# Altium schematic symbol library transistor.SchLib: 14 symbols
Pins are listed as number, name and electrical type; pins without a type are passive.

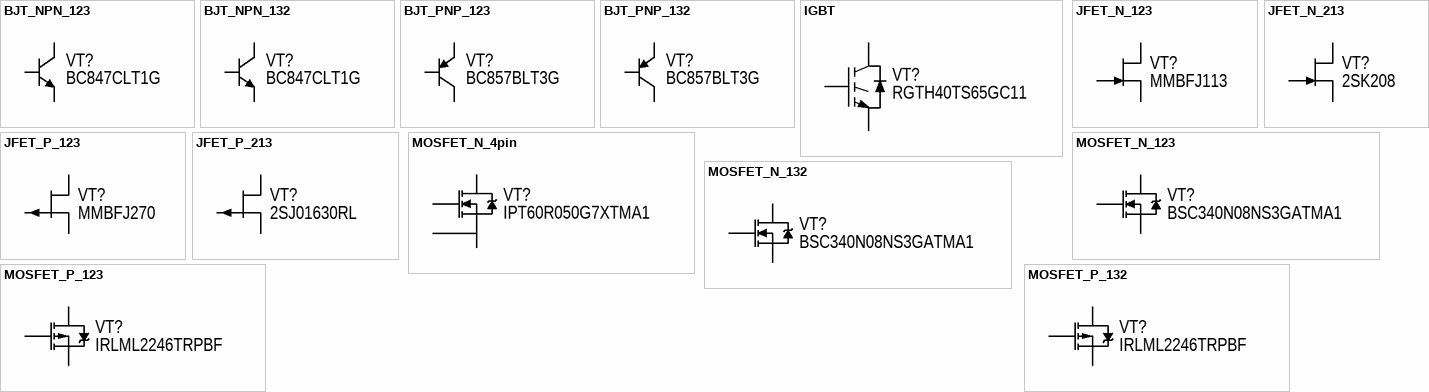
[diagram p0: symbols BJT_NPN_123 to MOSFET_P_132]

## BJT_NPN_123
designator VT?  PartNumber: BC847CLT1G
Manufacturer: ON Semiconductor; ValueManufacturerPartNumber: NPN transistor, 45V, 100mA, 100MHz, 300mW, 0.6V, 420, SOT-23, -55...+125°C; TypeTransistor: NPN transistor; VoltageCE: 45V; CurrentCE: 100mA; VoltageSaturation: 0.6V; Frequency: 100MHz; CurrentGain: 420; MaxPower: 300mW; Package: SOT-23; HelpURL: https://www.digikey.com/product-detail/en/on-semiconductor/BC847CLT1G/BC847CLT1GOSCT-ND/917836; Temperature: -55...+125°C
footprint DPAK
footprint D2PAK
footprint SOT23
footprint SOT89
footprint SOT223 (SOT223, 4-Leads, Body 6,50x7,00mm (avg), Pitch 2,30mm, IPC Medium Density)
footprint SC-70
pins: 1 B, 2 C, 3 E

## BJT_NPN_132
designator VT?  PartNumber: BC847CLT1G
Manufacturer: ON Semiconductor; ValueManufacturerPartNumber: NPN transistor, 45V, 100mA, 100MHz, 300mW, 0.6V, 420, SOT-23, -55...+125°C; TypeTransistor: NPN transistor; VoltageCE: 45V; CurrentCE: 100mA; VoltageSaturation: 0.6V; Frequency: 100MHz; CurrentGain: 420; MaxPower: 300mW; Package: SOT-23; HelpURL: https://www.digikey.com/product-detail/en/on-semiconductor/BC847CLT1G/BC847CLT1GOSCT-ND/917836; Temperature: -55...+125°C
footprint D2PAK
footprint DPAK
footprint SOT23
footprint SOT89
footprint SOT223 (SOT223, 4-Leads, Body 6,50x7,00mm (avg), Pitch 2,30mm, IPC Medium Density)
footprint SC-70
pins: 1 B, 2 E, 3 C

## BJT_PNP_123
designator VT?  PartNumber: BC857BLT3G
Manufacturer: ON Semiconductor; ValueManufacturerPartNumber: PNP transistor, 45V, 100mA, 100MHz, 300mW, 0.65V, 220, SOT-23, -55...+125°C; TypeTransistor: PNP transistor; VoltageCE: 45V; CurrentCE: 100mA; VoltageSaturation: 0.65V; Frequency: 100MHz; CurrentGain: 220; MaxPower: 300mW; Package: SOT-23; HelpURL: https://www.digikey.com/product-detail/en/on-semiconductor/BC857BLT3G/BC857BLT3GOSCT-ND/2704963; Temperature: -55...+125°C
footprint D2PAK
footprint DPAK
footprint SOT223 (SOT223, 4-Leads, Body 6,50x7,00mm (avg), Pitch 2,30mm, IPC Medium Density)
footprint SOT23
footprint SOT89
footprint SC-70
pins: 1 B, 2 E, 3 C

## BJT_PNP_132
designator VT?  PartNumber: BC857BLT3G
Manufacturer: ON Semiconductor; ValueManufacturerPartNumber: PNP transistor, 45V, 100mA, 100MHz, 300mW, 0.65V, 220, SOT-23, -55...+125°C; TypeTransistor: PNP transistor; VoltageCE: 45V; CurrentCE: 100mA; VoltageSaturation: 0.65V; Frequency: 100MHz; CurrentGain: 220; MaxPower: 300mW; Package: SOT-23; HelpURL: https://www.digikey.com/product-detail/en/on-semiconductor/BC857BLT3G/BC857BLT3GOSCT-ND/2704963; Temperature: -55...+125°C
footprint D2PAK
footprint DPAK
footprint SOT89
footprint SOT23
footprint SOT223 (SOT223, 4-Leads, Body 6,50x7,00mm (avg), Pitch 2,30mm, IPC Medium Density)
footprint SC-70
pins: 1 B, 2 C, 3 E

## IGBT
designator VT?  PartNumber: RGTH40TS65GC11
Manufacturer: Rohm Semiconductor; ValueManufacturerPartNumber: IGBT transistor, 650V, 40A, 40nC, 144W, 2.1V, 22ns/73ns, TO247, -55...+125°C; TypeTransistor: IGBT transistor; VoltageCE: 650V; CurrentCE: 40A; VoltageSaturation: 2.1V; GateCharge: 40nC; TimeOnOff: 22ns/73ns; MaxPower: 144W; Package: TO247; HelpURL: https://www.digikey.com/product-detail/en/rohm-semiconductor/RGTH40TS65GC11/RGTH40TS65GC11-ND/5029953; Temperature: -55...+125°C
footprint TO220
footprint TO220(H)
footprint TO247 (3-Lead Plastic TO-247)
footprint TO247(H) (3-Lead Plastic TO-247)
pins: 1 G, 2 C, 3 E

## JFET_N_123
designator VT?  PartNumber: MMBFJ113
Manufacturer: ON Semiconductor; ValueManufacturerPartNumber: JFET N-Channel transistor, 35V, 2mA, 350mW, 100 Ohms, SOT-23, -55...+150°C; TypeTransistor: JFET N-Channel transistor; VoltageDS: 35V; CurrentDS: 2mA; RDS: 100 Ohms; MaxPower: 350mW; Package: SOT-23; HelpURL: https://www.digikey.com/product-detail/en/on-semiconductor/MMBFJ113/MMBFJ113TR-ND/1049302; Temperature: -55...+150°C
footprint SOT23
pins: 1 D, 2 S, 3 G

## JFET_N_213
designator VT?  PartNumber: 2SK208
Manufacturer: Toshiba Semiconductor and Storage; ValueManufacturerPartNumber: JFET N-Channel transistor, 50V, 6.5mA, 100mW, 100 Ohms, SOT-23, -55...+125°C; TypeTransistor: JFET N-Channel transistor; VoltageDS: 50V; CurrentDS: 6.5mA; RDS: 100 Ohms; MaxPower: 100mW; Package: SOT-23; HelpURL: https://www.digikey.com/product-detail/en/toshiba-semiconductor-and-storage/2SK208-R-TE85L-F/2SK208-R-TE85LF-TR-ND/4503056; Temperature: -55...+125°C
footprint SOT23
pins: 1 S, 2 D, 3 G

## JFET_P_123
designator VT?  PartNumber: MMBFJ270
Manufacturer: ON Semiconductor; ValueManufacturerPartNumber: JFET P-Channel transistor, 30V, 2mA, 225mW, 34mOhm, SOT-23, -55...+150°C; TypeTransistor: JFET P-Channel transistor; VoltageDS: 30V; CurrentDS: 2mA; RDS: 34mOhm; MaxPower: 225mW; Package: SOT-23; HelpURL: https://www.digikey.com/product-detail/en/on-semiconductor/MMBFJ270/MMBFJ270TR-ND/1050159; Temperature: -55...+150°C
footprint SOT23
pins: 1 D, 2 S, 3 G

## JFET_P_213
designator VT?  PartNumber: 2SJ01630RL
Manufacturer: Panasonic Electronic Components; ValueManufacturerPartNumber: JFET P-Channel transistor, 65V, 20mA, 150mW, 300 Ohms, SOT-23, -55...+150°C; TypeTransistor: JFET P-Channel transistor; VoltageDS: 65V; CurrentDS: 20mA; RDS: 300 Ohms; MaxPower: 150mW; Package: SOT-23; HelpURL: https://www.digikey.com/product-detail/en/panasonic-electronic-components/2SJ01630RL/2SJ01630RLTR-ND/972189; Temperature: -55...+150°C
footprint SOT23
pins: 1 S, 2 D, 3 G

## MOSFET_N_4pin
designator VT?  PartNumber: IPT60R050G7XTMA1
Manufacturer: Infineon Technologies; ValueManufacturerPartNumber: MOSFET N-channel transistor, 650V, 44A, 68nC, 245W, 50mOhm, 2670pF, 8-HSOF, -55...+150°C; TypeTransistor: MOSFET N-channel transistor; VoltageDS: 650V; CurrentDS: 44A; RDS: 50mOhm; GateCharge: 68nC; InputCapacitor: 2670pF; MaxPower: 245W; Package: 8-HSOF; HelpURL: https://www.digikey.com/product-detail/en/infineon-technologies/IPT60R050G7XTMA1/IPT60R050G7XTMA1CT-ND/8655796; Temperature: -55...+150°C
footprint HSOF-8-2 (8-HSOF)
footprint PowerPAK (8x8 mm)
pins: 1 G, 2 D, 3 S, 4 S

## MOSFET_N_123
designator VT?  PartNumber: BSC340N08NS3GATMA1
Manufacturer: Infineon Technologies; ValueManufacturerPartNumber: MOSFET N-channel transistor, 80V, 7A, 9.1nC, 2.5W, 34mOhm, 756pF, 8-TDSON, -55...+150°C; TypeTransistor: MOSFET N-channel transistor; VoltageDS: 80V; CurrentDS: 7A; RDS: 34mOhm; GateCharge: 9.1nC; InputCapacitor: 756pF; MaxPower: 2.5W; Package: 8-TDSON; HelpURL: https://www.digikey.com/product-detail/en/infineon-technologies/BSC340N08NS3GATMA1/BSC340N08NS3GATMA1TR-ND/2080655; Temperature: -55...+150°C
footprint SOT23
footprint TO220
footprint TO220(H)
footprint TO247 (3-Lead Plastic TO-247)
footprint TO247(H) (3-Lead Plastic TO-247)
footprint HSOF-8-1 (8-HSOF)
footprint 8-TDSON (pitch 1.3 mm, power pad)
footprint D2PAK
footprint DPAK
footprint SC-70
footprint TO-220 HV
pins: 1 G, 2 D, 3 S

## MOSFET_N_132
designator VT?  PartNumber: BSC340N08NS3GATMA1
Manufacturer: Infineon Technologies; ValueManufacturerPartNumber: MOSFET N-channel transistor, 80V, 7A, 9.1nC, 2.5W, 34mOhm, 756pF, 8-TDSON, -55...+150°C; TypeTransistor: MOSFET N-channel transistor; VoltageDS: 80V; CurrentDS: 7A; RDS: 34mOhm; GateCharge: 9.1nC; InputCapacitor: 756pF; MaxPower: 2.5W; Package: 8-TDSON; HelpURL: https://www.digikey.com/product-detail/en/infineon-technologies/BSC340N08NS3GATMA1/BSC340N08NS3GATMA1TR-ND/2080655; Temperature: -55...+150°C
footprint SOT23
footprint D2PAK
footprint DPAK
footprint SC-70
pins: 1 G, 2 S, 3 D

## MOSFET_P_123
designator VT?  PartNumber: IRLML2246TRPBF
Manufacturer: Infineon Technologies; ValueManufacturerPartNumber: MOSFET P-channel transistor, 20V, 2.6A, 2.9nC, 2.5W, 135mOhm, 220pF, SOT-23, -55...+150°C; TypeTransistor: MOSFET P-channel transistor; VoltageDS: 20V; CurrentDS: 2.6A; RDS: 135mOhm; GateCharge: 2.9nC; InputCapacitor: 220pF; MaxPower: 2.5W; Package: SOT-23; HelpURL: https://www.digikey.com/product-detail/en/infineon-technologies/IRLML2246TRPBF/IRLML2246TRPBFCT-ND/2639576; Temperature: -55...+150°C
footprint SOT23
footprint D2PAK
footprint DPAK
footprint SC-70
pins: 1 G, 2 D, 3 S

## MOSFET_P_132
designator VT?  PartNumber: IRLML2246TRPBF
Manufacturer: Infineon Technologies; ValueManufacturerPartNumber: MOSFET P-channel transistor, 20V, 2.6A, 2.9nC, 2.5W, 135mOhm, 220pF, SOT-23, -55...+150°C; TypeTransistor: MOSFET P-channel transistor; VoltageDS: 20V; CurrentDS: 2.6A; RDS: 135mOhm; GateCharge: 2.9nC; InputCapacitor: 220pF; MaxPower: 2.5W; Package: SOT-23; HelpURL: https://www.digikey.com/product-detail/en/infineon-technologies/IRLML2246TRPBF/IRLML2246TRPBFCT-ND/2639576; Temperature: -55...+150°C
footprint SOT23
footprint D2PAK
footprint DPAK
footprint SC-70
pins: 1 G, 2 S, 3 D